# Altium schematic symbol library Transistor.SchLib: 12 symbols
Pins are listed as number, name and electrical type; pins without a type are passive.

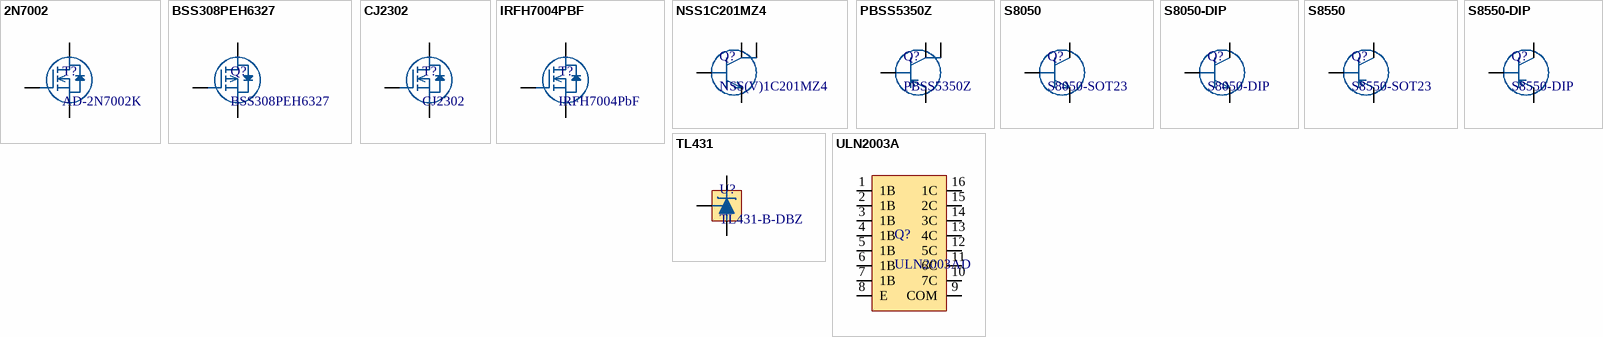
[diagram p0: symbols 2N7002 to ULN2003A]

## 2N7002
designator T?, comment AD-2N7002K
N-Type, -K for Q100; Type: AD-2N7002K
footprint SOT95P245X110-3N (SOT23, 3-Leads, Body 2.90x2.45mm, Pitch 0.95mm, IPC Medium Density)
pins: 1 GATE, 2 SOURCE, 3 DRAIN

## BSS308PEH6327
designator Q?
P-Type, Q100, ESD; Type: BSS308PEH6327
footprint SOT95P245X110-3N (SOT23, 3-Leads, Body 2.90x2.45mm, Pitch 0.95mm, IPC Medium Density)
pins: 1 GATE, 2 SOURCE, 3 DRAIN

## CJ2302
designator T?
Jellybean N-Channel Mosfet; Type: CJ2302
footprint SOT95P245X110-3N (SOT23, 3-Leads, Body 2.90x2.45mm, Pitch 0.95mm, IPC Medium Density)
pins: 1 GATE, 2 SOURCE, 3 DRAIN

## IRFH7004PBF
designator T?, comment IRFH7004PbF
40V, 1.1mOhm, 259A; Type: IRFH7004PbF
footprint PQFN5x6, Single B device (PQFN, 8-Leads, Body 6.00x5.00mm, Pitch 1.27mm, Thermal Pad 0.00x2.20mm, IPC Medium Density)
pins: Drain DRAIN, Gate GATE, Source SOURCE

## NSS1C201MZ4
designator Q?, comment NSS(V)1C201MZ4
100 V, 2.0 A, Low VCE(sat) NPN Transistor; Type: NSS(V)1C201MZ4
footprint SOT230P700X180-4N (SOT223, 4-Leads, Body 6.50x7.00mm (avg), Pitch 2.30mm, IPC Medium Density)
pins: 1 Base, 2 Collector, 3 Emitter, 4 Collector

## PBSS5350Z
designator Q?
50 V, 3 A PNP low VCEsat (BISS) transistor; Type: PBSS5350Z
footprint SOT230P700X180-4N (SOT223, 4-Leads, Body 6.50x7.00mm (avg), Pitch 2.30mm, IPC Medium Density)
pins: 1 Base, 2 Collector, 3 Emitter, 4 Collector

## S8050
designator Q?, comment S8050-SOT23
Jellybeam NPN; Type: S8050-SOT23
footprint SOT95P245X110-3N (SOT23, 3-Leads, Body 2.90x2.45mm, Pitch 0.95mm, IPC Medium Density)
pins: 1 Base, 2 Emitter, 3 Collector

## S8050-DIP
designator Q?
Jellybeam NPN; Type: S8050-DIP
footprint TO-92-3L_5P33X5P2_ONS
pins: 1 Emitter, 2 Base, 3 Collector

## S8550
designator Q?, comment S8550-SOT23
Jellybeam PNP; Type: S8550-SOT23
footprint SOT95P245X110-3N (SOT23, 3-Leads, Body 2.90x2.45mm, Pitch 0.95mm, IPC Medium Density)
pins: 1 Base, 2 Emitter, 3 Collector

## S8550-DIP
designator Q?
Jellybeam PNP; Type: S8550-DIP
footprint TO-92-3L_5P33X5P2_ONS
pins: 1 Emitter, 2 Base, 3 Collector

## TL431
designator U?, comment TL431-B-DBZ
Programmable Reference; Type: TL431-B-DBZ
footprint SOT95P245X110-3N (SOT23, 3-Leads, Body 2.90x2.45mm, Pitch 0.95mm, IPC Medium Density)
pins: 1 K, 2 REF, 3 A

## ULN2003A
designator Q?, comment ULN2003AD
Type: ULN2003AD
footprint SOIC127P600X175-16N (SOIC, 16-Leads, Body 9.90x3.90mm, Pitch 1.27mm, IPC Medium Density)
pins: 1 1B, 2 1B, 3 1B, 4 1B, 5 1B, 6 1B, 7 1B, 8 E, 9 COM, 10 7C, 11 6C, 12 5C, 13 4C, 14 3C, 15 2C, 16 1C